# Altium footprint library SparkFun-Boards.PCBLIB: 71 footprints (part 4 of 5)
Each footprint in its own frame and in the unit in brackets; x right, y up, seen from the top. Pads: shape width x height; smd on the part's side, far side on the other; paste and mask are expansions set on the pad; w line width, h text height; cw(c..) or ccw(c..) is an arc to the next point about the centre after c.
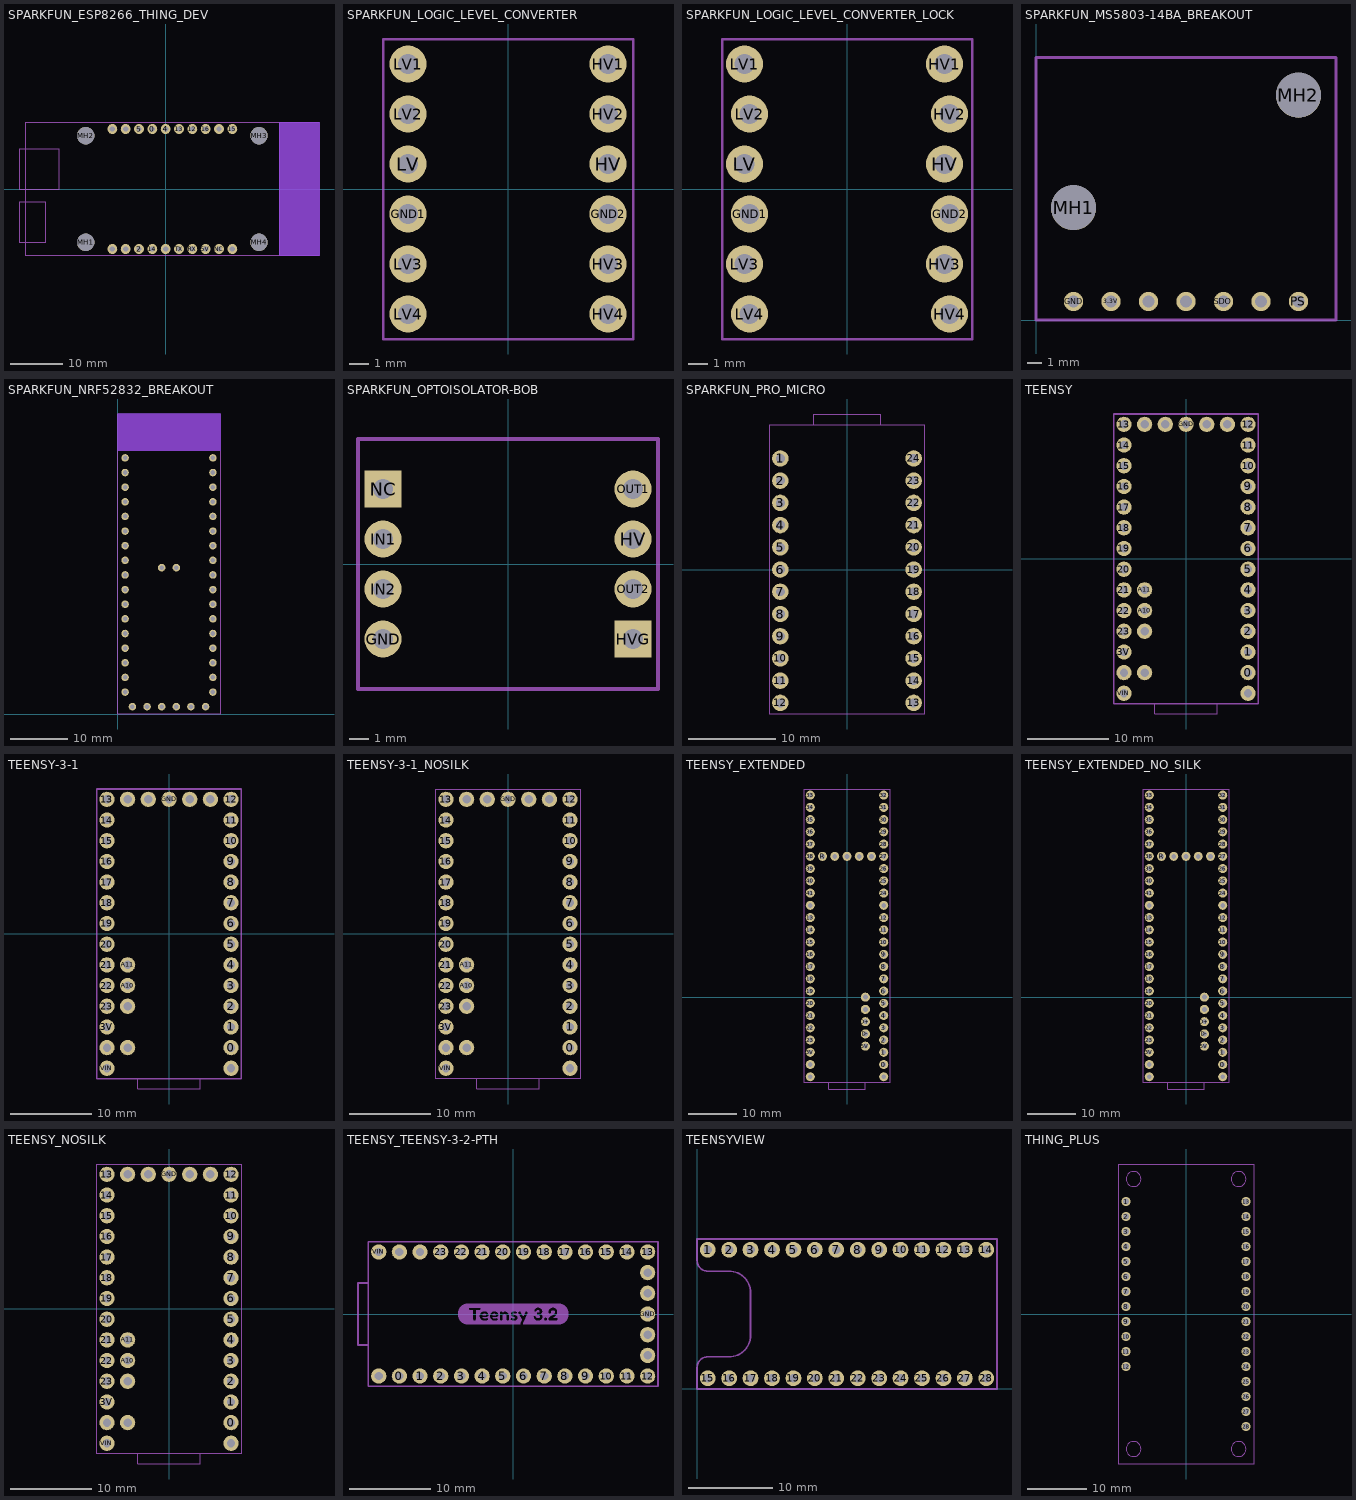
[diagram p3: the footprints below, top view; thin cyan lines are the x and y axes]

## SPARKFUN_ESP8266_THING_DEV [mil]
pads (24):
  round 74 hole 40: 0(-100,450) 2(-200,-450) 3.3V(-300,-450) 4(0,450) 5(-200,450) 5V(300,-450) 12(200,450) 13(100,450) 14(-100,-450) 15(500,450) 16(300,450) ADC(400,450) GND@1(-400,-450) GND@2(500,-450) GND@3(-400,450) NC(400,-450) RST(0,-450) RX(200,-450) TX(100,-450) VIN(-300,450)
  round 130 hole 130 unplated: MH1(-600,-400) MH2(-600,400) MH3(700,400) MH4(700,-400)
Top keep-out:
  region: 850,500 850,-500 1150,-500 1150,500
Bottom keep-out:
  region: 850,500 850,-500 1150,-500 1150,500
tDocu:
  lines w5: -1050,-500 -1050,0 -1050,500 1150,500 1150,-500 -1050,-500
Reference:
  lines w5: 850,-500 850,500 ; -1100,-400 -900,-400 -900,-100 -1100,-100 -1100,-400 ; -1100,0 -1100,300 -800,300 -800,0 -1050,0 -1100,0
  text "Antenna" at 925,-200 h59.5
  text "USB" at -975,-350 h59.5
  text "JST" at -975,50 h59.5

## SPARKFUN_LOGIC_LEVEL_CONVERTER [mil]
pads (12):
  round 74 hole 40: GND1(-200,-50) GND2(200,-50) HV(200,50) HV1(200,250) HV2(200,150) HV3(200,-150) HV4(200,-250) LV(-200,50) LV1(-200,250) LV2(-200,150) LV3(-200,-150) LV4(-200,-250)
tPlace:
  lines w5: -250,-300 -250,300 250,300 250,-300 -250,-300
  text "LV1" at -150,250 h27.2
  text "LV2" at -150,150 h27.2
  text "HV1" at 75,250 h27.2
  text "HV2" at 75,150 h27.2
  text "LV" at -150,50 h27.2
  text "GND" at -150,-50 h27.2
  text "LV3" at -150,-150 h27.2
  text "LV4" at -150,-250 h27.2
  text "HV" at 100,50 h27.2
  text "GND" at 75,-50 h27.2
  text "HV3" at 75,-150 h27.2
  text "HV4" at 75,-250 h27.2

## SPARKFUN_LOGIC_LEVEL_CONVERTER_LOCK [mil]
pads (12):
  round 74 hole 40: GND1(-195,-50) GND2(205,-50) HV(195,50) HV1(195,250) HV2(205,150) HV3(195,-150) HV4(205,-250) LV(-205,50) LV1(-205,250) LV2(-195,150) LV3(-205,-150) LV4(-195,-250)
tPlace:
  lines w5: -250,-300 -250,300 250,300 250,-300 -250,-300
  text "LV1" at -150,250 h27.2
  text "LV2" at -150,150 h27.2
  text "HV1" at 75,250 h27.2
  text "HV2" at 75,150 h27.2
  text "LV" at -150,50 h27.2
  text "GND" at -150,-50 h27.2
  text "LV3" at -150,-150 h27.2
  text "LV4" at -150,-250 h27.2
  text "HV" at 100,50 h27.2
  text "GND" at 75,-50 h27.2
  text "HV3" at 75,-150 h27.2
  text "HV4" at 75,-250 h27.2

## SPARKFUN_MS5803-14BA_BREAKOUT [mil]
pads (9):
  round 51.5 hole 31.5: 3.3V(200,50) AD/CS(600,50) GND(100,50) PS(700,50) SCL/SCLK(400,50) SDA/SDI(300,50) SDO(500,50)
  round 120 hole 120 unplated: MH1(100,300) MH2(700,600)
tPlace:
  lines w8: 0,0 0,700 800,700 800,0 0,0

## SPARKFUN_NRF52832_BREAKOUT [mil]
pads (42):
  round 51.5 hole 31.5: 00/X1(650,450) 1-NFC(300,1000) 01/X2(650,550) 2-NFC(400,1000) 02/A0(650,650) 3.3V(50,350) 3.3V@1(650,350) 03/A1(650,750) 04/A2(650,850) 05/A3(650,950) 08(650,1050) 09(650,1150) 10(650,1250) 11(650,1350) 12(650,1450) 13(650,1550) 14(650,1650) 15(650,1750) 16(50,1750) 17(50,1650) 18(50,1550) 19(50,1450) 20(50,1350) 22(50,1250) 23(50,1150) 24(50,1050) 25(50,950) 26/RX(300,50) 27/TX(200,50) 28/A4(50,850) 29/A5(50,750) 30/A6(50,650) 31/A7(50,550) !RST(50,450) GND(50,150) GND1(600,50) GND2(650,150) P$1(100,50) P$5(500,50) VCC(400,50) VIN(50,250) VIN1(650,250)
Top keep-out:
  region: 0,2050 0,1800 700,1800 700,2050
Bottom keep-out:
  region: 0,2050 0,1800 700,1800 700,2050
tDocu:
  text "Antenna" at 200,1975 h42.5
  text "Keepout" at 200,1900 h42.5
tPlace:
  lines w8: 0,0 0,2050 700,2050 700,0 0,0

## SPARKFUN_OPTOISOLATOR-BOB [mil]
pads (8):
  round 74 hole 40: GND(-250,-150) HV(250,50) IN1(-250,50) IN2(-250,-50) OUT1(250,150) OUT2(250,-50)
  rect 74x74 / inner round 68.37 / far side rect 74x74 hole 40: HVG(250,-150) NC(-250,150)
tPlace:
  lines w8: -300,-250 300,-250 300,250 -300,250 -300,-250
  text "IN1" at -200,25 h34
  text "IN2" at -200,-75 h34
  text "GND" at -200,-175 h34
  text "OUT2" at 200,-25 h34
  text "OUT1" at 200,175 h34
  text "HV" at 200,75 h34
  text "HVG" at 200,-125 h34
  text "NC" at -200,125 h34
  text "Optoisolator" at -185,-225 h34

## SPARKFUN_PRO_MICRO [mil]
pads (24):
  round 74 hole 40: 1(-300,500) 2(-300,400) 3(-300,300) 4(-300,200) 5(-300,100) 6(-300,0) 7(-300,-100) 8(-300,-200) 9(-300,-300) 10(-300,-400) 11(-300,-500) 12(-300,-600) 13(300,-600) 14(300,-500) 15(300,-400) 16(300,-300) 17(300,-200) 18(300,-100) 19(300,0) 20(300,100) 21(300,200) 22(300,300) 23(300,400) 24(300,500)
tDocu:
  lines w5: -150,650 -150,700 150,700 150,650 ; -350,-650 -350,650 350,650 350,-650 -350,-650
  text "USB" at -50,650 h27.2

## TEENSY [mil]
pads (37):
  round 74 hole 40: 0(300,-550) 1(300,-450) 2(300,-350) 3(300,-250) 3.3V(100,650) 3V(-300,-450) 4(300,-150) 5(300,-50) 6(300,50) 7(300,150) 8(300,250) 9(300,350) 10(300,450) 11(300,550) 12(300,650) 13(-300,650) 14(-300,550) 15(-300,450) 16(-300,350) 17(-300,250) 18(-300,150) 19(-300,50) 20(-300,-50) 21(-300,-150) 22(-300,-250) 23(-300,-350) A10(-200,-250) A11(-200,-150) A14/DAC(-200,650) AGND(-300,-550) AREF(-200,-350) GND(0,650) GND1(300,-650) PROG(-100,650) VBAT(200,650) VIN(-300,-650) VUSB(-200,-550)
tDocu:
  lines w5: -150,-700 150,-700 ; -150,-700 -350,-700 -350,700 350,700 350,-700 150,-700 ; -150,-700 -150,-750 150,-750 150,-700
tPlace:
  lines w8: -350,-700 -350,700 350,700 350,-700 -350,-700
  text "VIN" at -212.5,-687.5 h27.2
  text "VIN" at -212.5,-487.5 h27.2
  text "VUSB" at -112.5,-600 h27.2
  text "AREF" at -112.5,-425 h27.2
  text "A10" at -112.5,-300 h27.2
  text "A11" at -112.5,-187.5 h27.2
  text "A6" at -212.5,-75 h27.2
  text "A5" at -212.5,25 h27.2
  text "A4" at -212.5,125 h27.2
  text "A3" at -212.5,225 h27.2
  text "A2" at -212.5,325 h27.2
  text "A1" at -212.5,425 h27.2
  text "A0" at -212.5,525 h27.2
  text "11" at 250,575 h27.2
  text "10" at 250,475 h27.2
  text "9" at 250,362.5 h27.2
  text "8" at 250,262.5 h27.2
  text "7" at 250,175 h27.2
  text "6" at 250,62.5 h27.2
  text "5" at 250,-37.5 h27.2
  text "4" at 250,-137.5 h27.2
  text "3" at 250,-237.5 h27.2
  text "2" at 250,-337.5 h27.2
  text "1" at 250,-437.5 h27.2
  text "0" at 250,-537.5 h27.2
  text "GND" at 250,-600 h27.2
  text "A8" at -362.5,-212.5 h27.2
  text "A9" at -362.5,-312.5 h27.2
  text "AGND" at -362.5,-500 h27.2
  text "PROG" at -75,587.5 h27.2
  text "GND" at 12.5,587.5 h27.2
  text "3.3V" at 112.5,587.5 h27.2
  text "VBAT" at 212.5,587.5 h27.2
  text "A14" at -175,587.5 h27.2
  text "A7" at -362.5,-112.5 h27.2
  text "13" at -362.5,675 h27.2
  text "12" at 362.5,625 h27.2
  text "3V" at -362.5,-412.5 h27.2
bPlace:
  lines w5: -350,-700 -350,700 350,700 350,-700 -350,-700
  text "A8" at -362.5,-212.5 h27.2
  text "A9" at -362.5,-312.5 h27.2
  text "AGND" at -362.5,-500 h27.2
  text "A7" at -362.5,-112.5 h27.2
  text "13" at -362.5,675 h27.2
  text "3V" at -362.5,-412.5 h27.2
  text "VIN" at -212.5,-487.5 h27.2
  text "VUSB" at -112.5,-600 h27.2
  text "VIN" at -212.5,-687.5 h27.2
  text "AREF" at -112.5,-425 h27.2
  text "A10" at -112.5,-300 h27.2
  text "A11" at -112.5,-187.5 h27.2
  text "A6" at -212.5,-75 h27.2
  text "A5" at -212.5,25 h27.2
  text "A4" at -212.5,125 h27.2
  text "A3" at -212.5,225 h27.2
  text "A2" at -212.5,325 h27.2
  text "A1" at -212.5,425 h27.2
  text "A14" at -175,587.5 h27.2
  text "PROG" at -75,587.5 h27.2
  text "GND" at 12.5,587.5 h27.2
  text "3.3V" at 112.5,587.5 h27.2
  text "VBAT" at 212.5,587.5 h27.2
  text "12" at 362.5,625 h27.2
  text "GND" at 250,-600 h27.2
  text "0" at 250,-537.5 h27.2
  text "1" at 250,-437.5 h27.2
  text "2" at 250,-337.5 h27.2
  text "3" at 250,-237.5 h27.2
  text "4" at 250,-137.5 h27.2
  text "5" at 250,-37.5 h27.2
  text "6" at 250,62.5 h27.2
  text "7" at 250,175 h27.2
  text "8" at 250,262.5 h27.2
  text "9" at 250,362.5 h27.2
  text "10" at 250,475 h27.2
  text "11" at 250,575 h27.2
  text "A0" at -212.5,525 h27.2

## TEENSY-3-1 [mil]
pads (37):
  round 74 hole 40: 0(300,-550) 1(300,-450) 2(300,-350) 3(300,-250) 3.3V(100,650) 3V(-300,-450) 4(300,-150) 5(300,-50) 6(300,50) 7(300,150) 8(300,250) 9(300,350) 10(300,450) 11(300,550) 12(300,650) 13(-300,650) 14(-300,550) 15(-300,450) 16(-300,350) 17(-300,250) 18(-300,150) 19(-300,50) 20(-300,-50) 21(-300,-150) 22(-300,-250) 23(-300,-350) A10(-200,-250) A11(-200,-150) A14/DAC(-200,650) AGND(-300,-550) AREF(-200,-350) GND(0,650) GND1(300,-650) PROG(-100,650) VBAT(200,650) VIN(-300,-650) VUSB(-200,-550)
tDocu:
  lines w5: -150,-700 150,-700 ; -150,-700 -350,-700 -350,700 350,700 350,-700 150,-700 ; -150,-700 -150,-750 150,-750 150,-700
tPlace:
  lines w8: -350,-700 -350,700 350,700 350,-700 -350,-700
  text "VIN" at -212.5,-687.5 h27.2
  text "VIN" at -212.5,-487.5 h27.2
  text "VUSB" at -112.5,-600 h27.2
  text "AREF" at -112.5,-425 h27.2
  text "A10" at -112.5,-300 h27.2
  text "A11" at -112.5,-187.5 h27.2
  text "A6" at -212.5,-75 h27.2
  text "A5" at -212.5,25 h27.2
  text "A4" at -212.5,125 h27.2
  text "A3" at -212.5,225 h27.2
  text "A2" at -212.5,325 h27.2
  text "A1" at -212.5,425 h27.2
  text "A0" at -212.5,525 h27.2
  text "11" at 250,575 h27.2
  text "10" at 250,475 h27.2
  text "9" at 250,362.5 h27.2
  text "8" at 250,262.5 h27.2
  text "7" at 250,175 h27.2
  text "6" at 250,62.5 h27.2
  text "5" at 250,-37.5 h27.2
  text "4" at 250,-137.5 h27.2
  text "3" at 250,-237.5 h27.2
  text "2" at 250,-337.5 h27.2
  text "1" at 250,-437.5 h27.2
  text "0" at 250,-537.5 h27.2
  text "GND" at 250,-600 h27.2
  text "A8" at -362.5,-212.5 h27.2
  text "A9" at -362.5,-312.5 h27.2
  text "AGND" at -362.5,-500 h27.2
  text "PROG" at -75,587.5 h27.2
  text "GND" at 12.5,587.5 h27.2
  text "3.3V" at 112.5,587.5 h27.2
  text "VBAT" at 212.5,587.5 h27.2
  text "A14" at -175,587.5 h27.2
  text "A7" at -362.5,-112.5 h27.2
  text "13" at -362.5,675 h27.2
  text "12" at 362.5,625 h27.2
  text "3V" at -362.5,-412.5 h27.2
bPlace:
  lines w5: -350,-700 -350,700 350,700 350,-700 -350,-700
  text "A8" at -362.5,-212.5 h27.2
  text "A9" at -362.5,-312.5 h27.2
  text "AGND" at -362.5,-500 h27.2
  text "A7" at -362.5,-112.5 h27.2
  text "13" at -362.5,675 h27.2
  text "3V" at -362.5,-412.5 h27.2
  text "VIN" at -212.5,-487.5 h27.2
  text "VUSB" at -112.5,-600 h27.2
  text "VIN" at -212.5,-687.5 h27.2
  text "AREF" at -112.5,-425 h27.2
  text "A10" at -112.5,-300 h27.2
  text "A11" at -112.5,-187.5 h27.2
  text "A6" at -212.5,-75 h27.2
  text "A5" at -212.5,25 h27.2
  text "A4" at -212.5,125 h27.2
  text "A3" at -212.5,225 h27.2
  text "A2" at -212.5,325 h27.2
  text "A1" at -212.5,425 h27.2
  text "A14" at -175,587.5 h27.2
  text "PROG" at -75,587.5 h27.2
  text "GND" at 12.5,587.5 h27.2
  text "3.3V" at 112.5,587.5 h27.2
  text "VBAT" at 212.5,587.5 h27.2
  text "12" at 362.5,625 h27.2
  text "GND" at 250,-600 h27.2
  text "0" at 250,-537.5 h27.2
  text "1" at 250,-437.5 h27.2
  text "2" at 250,-337.5 h27.2
  text "3" at 250,-237.5 h27.2
  text "4" at 250,-137.5 h27.2
  text "5" at 250,-37.5 h27.2
  text "6" at 250,62.5 h27.2
  text "7" at 250,175 h27.2
  text "8" at 250,262.5 h27.2
  text "9" at 250,362.5 h27.2
  text "10" at 250,475 h27.2
  text "11" at 250,575 h27.2
  text "A0" at -212.5,525 h27.2

## TEENSY-3-1_NOSILK [mil]
pads (37):
  round 74 hole 40: 0(300,-550) 1(300,-450) 2(300,-350) 3(300,-250) 3.3V(100,650) 3V(-300,-450) 4(300,-150) 5(300,-50) 6(300,50) 7(300,150) 8(300,250) 9(300,350) 10(300,450) 11(300,550) 12(300,650) 13(-300,650) 14(-300,550) 15(-300,450) 16(-300,350) 17(-300,250) 18(-300,150) 19(-300,50) 20(-300,-50) 21(-300,-150) 22(-300,-250) 23(-300,-350) A10(-200,-250) A11(-200,-150) A14/DAC(-200,650) AGND(-300,-550) AREF(-200,-350) GND(0,650) GND1(300,-650) PROG(-100,650) VBAT(200,650) VIN(-300,-650) VUSB(-200,-550)
tDocu:
  lines w5: -150,-700 150,-700 ; -150,-700 -350,-700 -350,700 350,700 350,-700 150,-700 ; -150,-700 -150,-750 150,-750 150,-700
tPlace:
  lines w5: -350,-700 -350,700 350,700 350,-700 -350,-700
bPlace:
  lines w5: -350,-700 -350,700 350,700 350,-700 -350,-700

## TEENSY_EXTENDED [mil]
pads (58):
  round 74 hole 40: 0(300,-550) 1(300,-450) 2(300,-350) 3(300,-250) 3.3V@1(300,750) 3.3V@2(100,1150) 3V(-300,-450) 4(300,-150) 5(300,-50) 5V(150,-400) 6(300,50) 7(300,150) 8(300,250) 9(300,350) 10(300,450) 11(300,550) 12(300,650) 13(-300,650) 14(-300,550) 15(-300,450) 16(-300,350) 17(-300,250) 18(-300,150) 19(-300,50) 20(-300,-50) 21(-300,-150) 22(-300,-250) 23(-300,-350) 24(300,850) 25(300,950) 26(300,1050) 27(300,1150) 28(300,1250) 29(300,1350) 30(300,1450) 31(300,1550) 32(300,1650) 33(-300,1650) 34(-300,1550) 35(-300,1450) 36(-300,1350) 37(-300,1250) 38(-300,1150) 39(-300,1050) 40(-300,950) 41(-300,850) AGND(-300,-550) D+(150,-200) D-(150,-300) GND(0,1150) GND1(300,-650) GND2(-300,750) GND3(150,-100) GND4(150,0) PROG(-100,1150) R(-200,1150) VBAT(200,1150) VIN(-300,-650)
tDocu:
  lines w5: -350,-700 -150,-700 ; 350,-700 150,-700 ; -150,-700 150,-700 ; -150,-700 -150,-750 150,-750 150,-700
tPlace:
  lines w8: -350,-700 -350,1700 350,1700 350,-700 -350,-700
  text "VIN" at -250,-650 h27.2
  text "20" at -250,-50 h27.2
  text "19" at -250,50 h27.2
  text "18" at -250,150 h27.2
  text "17" at -250,250 h27.2
  text "16" at -250,350 h27.2
  text "15" at -250,450 h27.2
  text "14" at -250,550 h27.2
  text "11" at 250,550 h27.2
  text "10" at 250,450 h27.2
  text "9" at 250,350 h27.2
  text "8" at 250,250 h27.2
  text "7" at 250,150 h27.2
  text "6" at 250,50 h27.2
  text "5" at 250,-50 h27.2
  text "4" at 250,-150 h27.2
  text "3" at 250,-250 h27.2
  text "2" at 250,-350 h27.2
  text "1" at 250,-450 h27.2
  text "0" at 250,-550 h27.2
  text "GND" at 250,-650 h27.2
  text "22" at -250,-250 h27.2
  text "23" at -250,-350 h27.2
  text "A" at -250,-550 h27.2
  text "GND" at -285.2,-550 h27.2
  text "PROG" at -100,1100 h27.2
  text "GND" at 0,1100 h27.2
  text "3.3V" at 100,1100 h27.2
  text "VBAT" at 185,1100 h27.2
  text "R" at -180,1100 h27.2
  text "21" at -250,-150 h27.2
  text "13" at -250,650 h27.2
  text "12" at 250,650 h27.2
  text "3V" at -250,-450 h27.2
  text "GND" at 25,0 h27.2
  text "GND" at 25,-100 h27.2
  text "D+" at 55,-200 h27.2
  text "D-" at 55,-300 h27.2
  text "5V" at 55,-400 h27.2
  text "3V3" at 250,750 h27.2
  text "24" at 250,850 h27.2
  text "25" at 250,950 h27.2
  text "26" at 255,1050 h27.2
  text "28" at 250,1250 h27.2
  text "29" at 250,1350 h27.2
  text "30" at 250,1450 h27.2
  text "31" at 250,1550 h27.2
  text "32" at 250,1650 h27.2
  text "GND" at -250,750 h27.2
  text "41" at -250,850 h27.2
  text "40" at -250,950 h27.2
  text "39" at -255,1050 h27.2
  text "37" at -250,1250 h27.2
  text "36" at -250,1350 h27.2
  text "35" at -250,1450 h27.2
  text "34" at -250,1550 h27.2
  text "33" at -250,1650 h27.2
bPlace:
  lines w5: -350,-700 -350,1700 350,1700 350,-700 -350,-700
  text "R" at -180,1100 h27.2
  text "PROG" at -100,1100 h27.2
  text "GND" at 0,1100 h27.2
  text "3.3V" at 100,1100 h27.2
  text "VBAT" at 185,1100 h27.2
  text "5V" at 105,-400 h27.2
  text "D-" at 105,-300 h27.2
  text "D+" at 105,-200 h27.2
  text "GND" at 105,-100 h27.2
  text "GND" at 105,0 h27.2
  text "VIN" at -250,-650 h27.2
  text "20" at -250,-50 h27.2
  text "19" at -250,50 h27.2
  text "18" at -250,150 h27.2
  text "17" at -250,250 h27.2
  text "16" at -250,350 h27.2
  text "15" at -250,450 h27.2
  text "14" at -250,550 h27.2
  text "11" at 250,550 h27.2
  text "10" at 250,450 h27.2
  text "9" at 250,350 h27.2
  text "8" at 250,250 h27.2
  text "7" at 250,150 h27.2
  text "6" at 250,50 h27.2
  text "5" at 250,-50 h27.2
  text "4" at 250,-150 h27.2
  text "3" at 250,-250 h27.2
  text "2" at 250,-350 h27.2
  text "1" at 250,-450 h27.2
  text "0" at 250,-550 h27.2
  text "GND" at 250,-650 h27.2
  text "22" at -250,-250 h27.2
  text "23" at -250,-350 h27.2
  text "A" at -214.8,-550 h27.2
  text "GND" at -250,-550 h27.2
  text "21" at -250,-150 h27.2
  text "13" at -250,650 h27.2
  text "12" at 250,650 h27.2
  text "3V" at -250,-450 h27.2
  text "3V3" at 250,750 h27.2
  text "24" at 250,850 h27.2
  text "25" at 250,950 h27.2
  text "26" at 255,1050 h27.2
  text "28" at 250,1250 h27.2
  text "29" at 250,1350 h27.2
  text "30" at 250,1450 h27.2
  text "31" at 250,1550 h27.2
  text "32" at 250,1650 h27.2
  text "GND" at -250,750 h27.2
  text "41" at -250,850 h27.2
  text "40" at -250,950 h27.2
  text "39" at -255,1050 h27.2
  text "37" at -250,1250 h27.2
  text "36" at -250,1350 h27.2
  text "35" at -250,1450 h27.2
  text "34" at -250,1550 h27.2
  text "33" at -250,1650 h27.2

## TEENSY_EXTENDED_NO_SILK [mil]
pads (58):
  round 74 hole 40: 0(300,-550) 1(300,-450) 2(300,-350) 3(300,-250) 3.3V@1(300,750) 3.3V@2(100,1150) 3V(-300,-450) 4(300,-150) 5(300,-50) 5V(150,-400) 6(300,50) 7(300,150) 8(300,250) 9(300,350) 10(300,450) 11(300,550) 12(300,650) 13(-300,650) 14(-300,550) 15(-300,450) 16(-300,350) 17(-300,250) 18(-300,150) 19(-300,50) 20(-300,-50) 21(-300,-150) 22(-300,-250) 23(-300,-350) 24(300,850) 25(300,950) 26(300,1050) 27(300,1150) 28(300,1250) 29(300,1350) 30(300,1450) 31(300,1550) 32(300,1650) 33(-300,1650) 34(-300,1550) 35(-300,1450) 36(-300,1350) 37(-300,1250) 38(-300,1150) 39(-300,1050) 40(-300,950) 41(-300,850) AGND(-300,-550) D+(150,-200) D-(150,-300) GND(0,1150) GND1(300,-650) GND2(-300,750) GND3(150,-100) GND4(150,0) PROG(-100,1150) R(-200,1150) VBAT(200,1150) VIN(-300,-650)
tDocu:
  lines w5: -350,-700 -150,-700 ; 350,-700 150,-700 ; -150,-700 150,-700 ; -150,-700 -150,-750 150,-750 150,-700
  lines w6: -350,-700 -350,1700 350,1700 350,-700

## TEENSY_NOSILK [mil]
pads (37):
  round 74 hole 40: 0(300,-550) 1(300,-450) 2(300,-350) 3(300,-250) 3.3V(100,650) 3V(-300,-450) 4(300,-150) 5(300,-50) 6(300,50) 7(300,150) 8(300,250) 9(300,350) 10(300,450) 11(300,550) 12(300,650) 13(-300,650) 14(-300,550) 15(-300,450) 16(-300,350) 17(-300,250) 18(-300,150) 19(-300,50) 20(-300,-50) 21(-300,-150) 22(-300,-250) 23(-300,-350) A10(-200,-250) A11(-200,-150) A14/DAC(-200,650) AGND(-300,-550) AREF(-200,-350) GND(0,650) GND1(300,-650) PROG(-100,650) VBAT(200,650) VIN(-300,-650) VUSB(-200,-550)
tDocu:
  lines w5: -150,-700 150,-700 ; -150,-700 -350,-700 -350,700 350,700 350,-700 150,-700 ; -150,-700 -150,-750 150,-750 150,-700
tPlace:
  lines w5: -350,-700 -350,700 350,700 350,-700 -350,-700
bPlace:
  lines w5: -350,-700 -350,700 350,700 350,-700 -350,-700

## TEENSY_TEENSY-3-2-PTH [mil]
pads (33):
  round 74 hole 40: 0(-550,-300) 1(-450,-300) 2(-350,-300) 3(-250,-300) 3.3V(650,-100) 3.3V-1(-450,300) 4(-150,-300) 5(-50,-300) 6(50,-300) 7(150,-300) 8(250,-300) 9(350,-300) 10(450,-300) 11(550,-300) 12(650,-300) 13(650,300) 14(550,300) 15(450,300) 16(350,300) 17(250,300) 18(150,300) 19(50,300) 20(-50,300) 21(-150,300) 22(-250,300) 23(-350,300) A14/DAC(650,200) AGND(-550,300) GND(650,0) GND1(-650,-300) PROG(650,100) VBAT(650,-200) VIN(-650,300)
tPlace:
  drawing of 287 lines, arcs and shapes, not listed

## TEENSYVIEW [mil]
pads (28):
  round 74 hole 40: 1(50,650) 2(150,650) 3(250,650) 4(350,650) 5(450,650) 6(550,650) 7(650,650) 8(750,650) 9(850,650) 10(950,650) 11(1050,650) 12(1150,650) 13(1250,650) 14(1350,650) 15(50,50) 16(150,50) 17(250,50) 18(350,50) 19(450,50) 20(550,50) 21(650,50) 22(750,50) 23(850,50) 24(950,50) 25(1050,50) 26(1150,50) 27(1250,50) 28(1350,50)
tPlace:
  lines w8: 0,0 1400,0 1400,700 0,700 0,600 ccw(c50,600) 50,550 150,550 cw(c150,450) 250,450 250,250 cw(c150,250) 150,150 50,150 ccw(c50,100) 0,100 0,0

## THING_PLUS [mil]
pads (28):
  round 60 hole 40: 1(-400,750) 2(-400,650) 3(-400,550) 4(-400,450) 5(-400,350) 6(-400,250) 7(-400,150) 8(-400,50) 9(-400,-50) 10(-400,-150) 11(-400,-250) 12(-400,-350) 13(400,750) 14(400,650) 15(400,550) 16(400,450) 17(400,350) 18(400,250) 19(400,150) 20(400,50) 21(400,-50) 22(400,-150) 23(400,-250) 24(400,-350) 25(400,-450) 26(400,-550) 27(400,-650) 28(400,-750)
tDocu:
  circle w5: c-350,900 r50
  circle w5: c350,900 r50
  circle w5: c350,-900 r50
  circle w5: c-350,-900 r50
  lines w5: -450,-1000 450,-1000 450,1000 -450,1000 -450,-1000